# Altium footprint library FA26X7R2A334KNU00.PcbLib: 1 footprints
Each footprint in its own frame and in the unit in brackets; x right, y up, seen from the top. Pads: shape width x height; smd on the part's side, far side on the other; paste and mask are expansions set on the pad; w line width, h text height; cw(c..) or ccw(c..) is an arc to the next point about the centre after c.
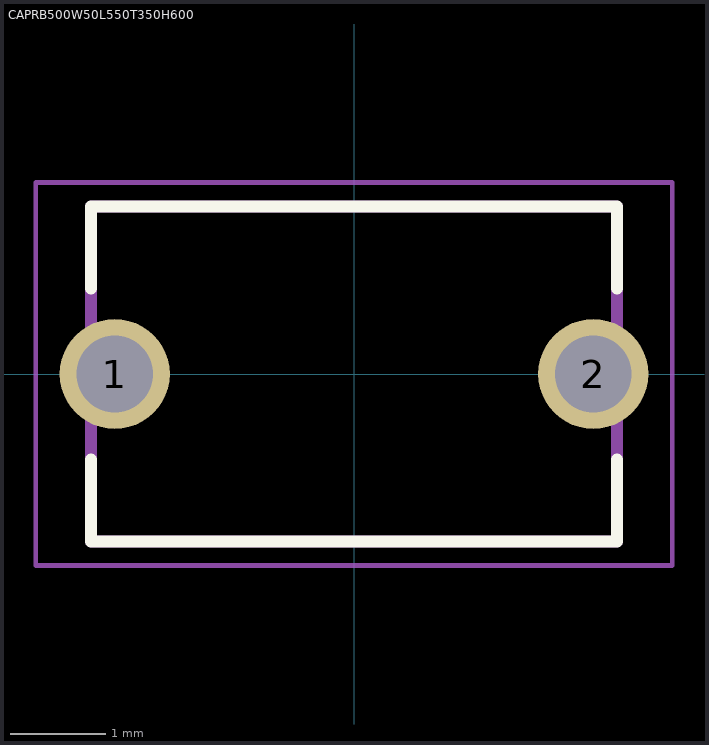
[diagram p0: the footprint, top view; thin cyan lines are the x and y axes]

## CAPRB500W50L550T350H600 [mm]
pads (2):
  round 1.15 hole 0.8: 1(-2.5,0) 2(2.5,0)
Top Overlay:
  lines w0.127: -2.75,-0.895 -2.75,-1.75 2.75,-1.75 2.75,-0.895 ; -2.75,0.895 -2.75,1.75 2.75,1.75 2.75,0.895
Mechanical 13:
  lines w0.127: -2.75,-1.75 2.75,-1.75 2.75,1.75 -2.75,1.75 -2.75,-1.75
Mechanical 15:
  lines w0.05: -3.325,-2 3.325,-2 3.325,2 -3.325,2 -3.325,-2
3D body "step_temp.STEP": height 3, standoff -12, extent -2.75,-1.75 2.75,1.75